# Altium footprint library RES SMD.PcbLib: 31 footprints (part 2 of 2)
Each footprint in its own frame and in the unit in brackets; x right, y up, seen from the top. Pads: shape width x height; smd on the part's side, far side on the other; paste and mask are expansions set on the pad; w line width, h text height; cw(c..) or ccw(c..) is an arc to the next point about the centre after c.
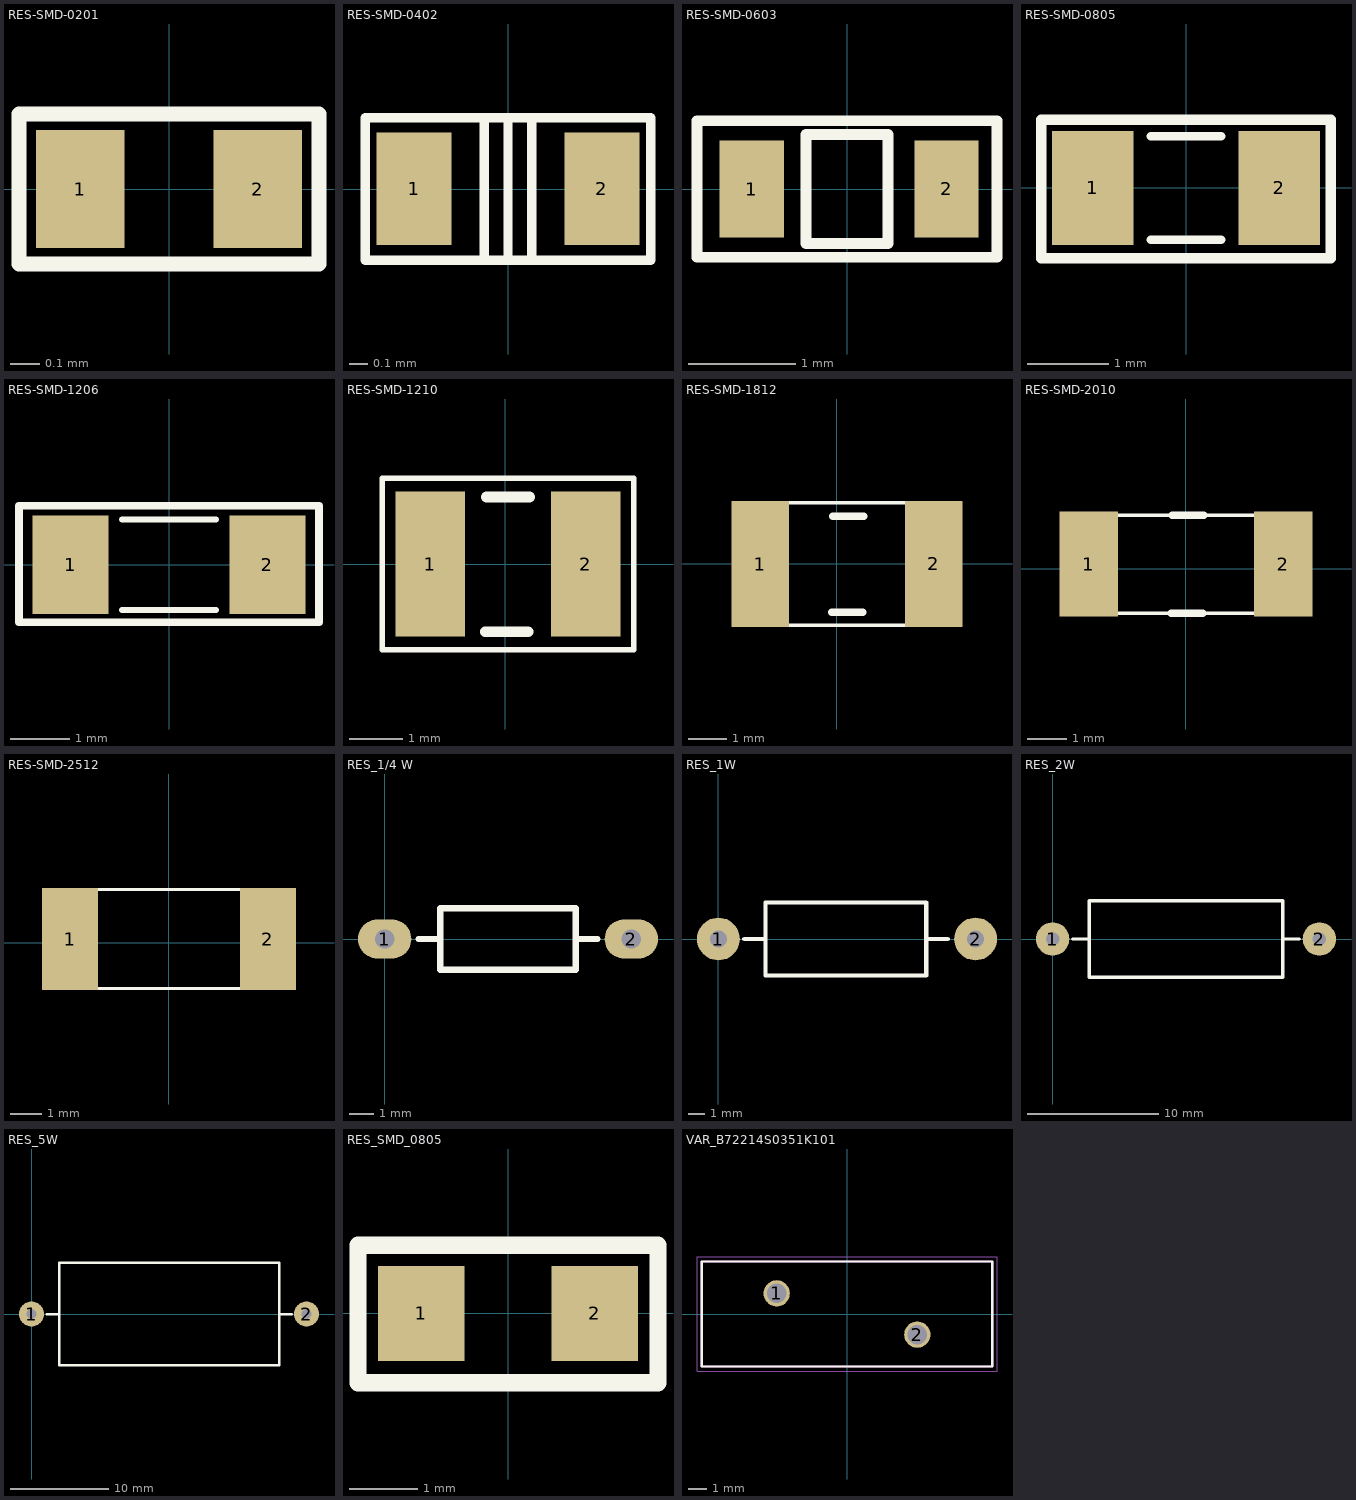
[diagram p1: the footprints below, top view; thin cyan lines are the x and y axes]

## RES-SMD-0201 [mm]
pads (2):
  rect 0.3x0.4 smd: 1(-0.3,0) 2(0.3,0)
Top Overlay:
  lines w0.05: -0.508,-0.254 0.508,-0.254 0.508,0.254 -0.508,0.254 -0.508,-0.254
3D body "User Library-SMD RESISTOR-1 (1).step": height 0.22, standoff -0.02, extent -0.3,-0.15 0.3,0.15

## RES-SMD-0402 [mm]
pads (2):
  rect 0.4x0.6 smd: 1(-0.5,0) 2(0.5,0)
Top Overlay:
  lines w0.05: -0.127,0.381 -0.127,-0.381 0,-0.381 ; 0,-0.381 0,0.381 ; 0,-0.381 0.127,-0.381 0.127,0.381 0,0.381 ; 0,0.381 0.762,0.381 0.762,-0.381 -0.762,-0.381 -0.762,0.381 0,0.381
3D body "User Library-SMD RESISTOR-1.step": height 0.35, standoff -0.01, extent -0.5,-0.25 0.5,0.25

## RES-SMD-0603 [mm]
pads (2):
  rect 0.6x0.9 smd: 1(-0.889,0) 2(0.927,0)
Top Overlay:
  lines w0.1: -1.397,-0.635 0.889,-0.635 1.397,-0.635 1.397,0.635 -1.397,0.635 -1.397,-0.635 ; -0.381,-0.508 0.381,-0.508 0.381,0.508 -0.381,0.508 -0.381,-0.508
Mechanical 29:
  text "'.Designator'" at -1.424,-0.241 h0.5
3D body "User Library-SMD RESISTOR-1 (3).step": height 0.43, standoff -0.03, extent -0.8,-0.4 0.8,0.4

## RES-SMD-0805 [mil]
pads (2):
  rect 39.37x55 smd: 1(-45,0) 2(45,0)
Top Overlay:
  lines w4: -17,-25 17,-25 ; -17,25 17,25
  lines w5: -70,-34 -70,33 70,33 70,-34 -70,-34
3D body "SW3dPS-0805 SMD Resistor.STEP": height 31.39, standoff 0.6, extent -39.36,-24.6 39.38,24.61

## RES-SMD-1206 [mil]
pads (2):
  rect 50x65 smd: 1(-65,0) 2(65,0)
Top Overlay:
  lines w4: -31,-30 31,-30 ; -31,30 31,30
  lines w5: -99,-38 99,-38 99,39 -99,39 -99,-38
3D body "1206 SMD Resistor.step": height 40.05, standoff 0.6, extent -62.99,-31.49 63,31.51

## RES-SMD-1210 [mm] "Chip Capacitor, Body 3.2x2.5mm, IPC Medium Density"
height 1.35
pads (2):
  rect 1.3x2.7 smd: 1(-1.397,0) 2(1.503,0)
Top Overlay:
  lines w0.1: -2.297,-1.6 -2.297,1.6 2.403,1.6 2.403,-1.6 -2.297,-1.6
  lines w0.2: -0.372,-1.265 0.428,-1.265 ; -0.347,1.25 0.453,1.25
3D body "User Library-SMD RESISTOR-1 (6).step": height 0.6, standoff 0, extent -1.6,-1.25 1.6,1.25

## RES-SMD-1812 [mm] "Chip Capacitor, Body 3.2x2.5mm, IPC Medium Density"
height 1.35
pads (2):
  rect 1.5x3.3 smd: 1(-1.996,0) 2(2.54,0)
Top Overlay:
  lines w0.1: -2.043,-1.6 2.54,-1.6 2.54,1.6 -2.043,1.6 -2.043,-1.6
  lines w0.2: -0.118,-1.265 0.682,-1.265 ; -0.093,1.25 0.707,1.25
3D body "User Library-SMD RESISTOR-1 (7).step": height 0.6, standoff 0, extent -1.996,-1.6 2.504,1.6

## RES-SMD-2010 [mm] "Chip Capacitor, Body 3.2x2.5mm, IPC Medium Density"
height 1.35
pads (2):
  rect 1.5x2.7 smd: 1(-2.5,0.127) 2(2.5,0.127)
Top Overlay:
  lines w0.1: -2.54,-1.138 -2.54,1.377 2.5,1.377 2.5,-1.138 -2.54,-1.138
  lines w0.2: -0.372,-1.138 0.428,-1.138 ; -0.347,1.377 0.453,1.377
3D body "User Library-SMD RESISTOR-1 (8).step": height 0.6, standoff 0, extent -2.5,-1.123 2.5,1.377

## RES-SMD-2512 [mm] "Chip Capacitor, Body 3.2x2.5mm, IPC Medium Density"
height 1.35
pads (2):
  rect 1.8x3.3 smd: 1(-3.2,0.127) 2(3.2,0.127)
Top Overlay:
  lines w0.1: -3.2,-1.473 -3.2,1.727 3.2,1.727 3.2,-1.473 -3.2,-1.473
3D body "User Library-SMD RESISTOR-1 (9).step": height 0.6, standoff 0, extent -3.2,-1.473 3.2,1.727

## RES_1/4 W [mm]
pads (2):
  oval 2.2x1.6 hole 0.787: 1(0,0) 2(10.16,0)
Top Overlay:
  lines w0.254: 1.397,0 2.286,0 ; 7.874,0 8.763,0 ; 2.286,-1.27 7.874,-1.27 7.874,1.27 2.286,1.27 2.286,-1.27
3D body "User Library-Res40-Axial 0_25W-1R.STEP": height 2.49, standoff -1.92, extent -0.3,-1.2 10.46,1.2

## RES_1W [mil]
pads (2):
  round 100 hole 40: 1(0,0) 2(600,0)
Top Overlay:
  lines w10: 60,0 110,0 ; 485,0 535,0 ; 110,0 110,-85 485,-85 485,85 110,85 110,0
3D body "User Library-PR02.STEP": height 176.77, standoff -310.6, extent -15,-76.77 616.49,76.77

## RES_2W [mil]
pads (2):
  round 100 hole 40: 1(0,0) 2(800,0)
Top Overlay:
  lines w10: 60,0 110,0 ; 690,0 740,0 ; 110,0 110,-115 690,-115 690,115 110,115 110,0
3D body "User Library-Res80 2W SilCoat.STEP": height 227.17, standoff -59.06, extent -13.94,-107.26 817.95,109.28

## RES_5W [mil]
pads (2):
  round 100 hole 40: 1(0,0) 2(1100,0)
Top Overlay:
  lines w10: 60,0 110,0 ; 990,0 1040,0 ; 110,0 110,-205 990,-205 990,205 110,205 110,0
3D body "User Library-Cement Fixed Resistors 5W 1K5 PCB Horizontal.STEP": height 354.83, standoff -141.23, extent -15,-196.85 1114.53,196.85

## RES_SMD_0805 [mil]
pads (2):
  rect 50x55 smd: 1(-50,0) 2(50,0)
Top Overlay:
  lines w10: -86.61,-40 86.61,-40 86.61,39.37 -86.61,39.37 -86.61,-40
3D body "User Library-RES_2013-0805.STEP": height 30.42, standoff 0.5, extent -45.27,-26.57 45.28,26.58

## VAR_B72214S0351K101 [mm]
pads (2):
  round 1.4 hole 1.05: 1(-3.75,1.1) 2(3.75,-1.1)
Top Overlay:
  lines w0.127: -7.75,-2.8 7.75,-2.8 7.75,2.8 -7.75,2.8 -7.75,-2.8
Mechanical 15:
  lines w0.127: -7.75,-2.8 -7.75,2.8 7.75,2.8 7.75,-2.8 -7.75,-2.8
Mechanical 29:
  lines w0.05: -8,-3.05 -8,3.05 8,3.05 8,-3.05 -8,-3.05
  text "'.Designator'" at -7.366,-0.381 h1.52
3D body "s14k275e2.step": height 17.5, standoff -22.18, extent -7.5,-1.798 7.5,1.797